# EAGLE library part TC4427ACOA713 (library RoboJackets-Discrete)
1.5A Dual High-Speed Power MOSFET Drivers Datasheet <https://ww1.microchip.com/downloads/en/DeviceDoc/20001423J.pdf>
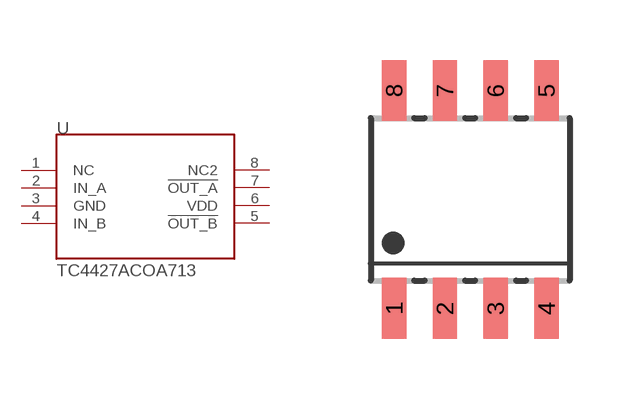
[diagram p1: symbol with the pads of SOIC-8; footprint SOIC-8]

Designator prefix U

## TC4427ACOA713 (DKPN: TC4427ACOA713CT-ND)  [SOIC-8]
1  NC  pas
2  IN_A  pas
3  GND  pas
4  IN_B  pas
5  !OUT_B  pas
6  VDD  pas
7  !OUT_A  pas
8  NC2  pas

## Footprint SOIC-8 (pad centres in mm)
8-pin SOIC Surface Mount high = 3.13 - 3.63mm Source: Data sheet <http://www.fairchildsemi.com/ds/MO%2FMOCD207-M.pdf>
smd 0.61 x 1.52: 1 -1.905,-2.723; 2 -0.635,-2.723; 3 0.635,-2.723; 4 1.905,-2.723; 5 1.905,2.723; 6 0.635,2.723; 7 -0.635,2.723; 8 -1.905,2.723